# Altium schematic symbol library U_TLV73312.SchLib: 1 symbol
Pins are listed as number, name and electrical type; pins without a type are passive.

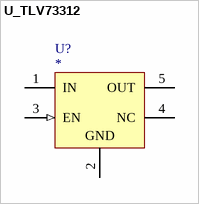
[diagram p0: symbol U_TLV73312]

## U_TLV73312
designator U?
pins: 1 IN (power) "Input supply voltage", 2 GND (power) "Ground", 3 EN (in) "Enable input", 4 NC "No connected", 5 OUT (power) "Regulated output voltage"